# EAGLE library part ATTINY4/5/9/10 (library eaglepartslib)
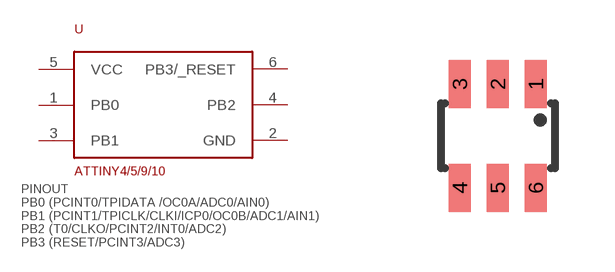
[diagram p0: symbol with the pads of SOT23-6AVR; footprint SOT23-6AVR]

Designator prefix -

## ATTINY4/5/9/106ST1  [SOT23-6AVR]
1  PB0
2  GND  pwr
3  PB1
4  PB2
5  VCC  pwr
6  PB3/_RESET

## Footprint SOT23-6AVR (pad centres in mm)
smd 0.55 x 1.2: 1 0.95,1.3; 2 0,1.3; 3 -0.95,1.3; 4 -0.95,-1.3; 5 0,-1.3; 6 0.95,-1.3